# Altium schematic symbol library Resistors.SchLib: 29 symbols
Pins are listed as number, name and electrical type; pins without a type are passive.

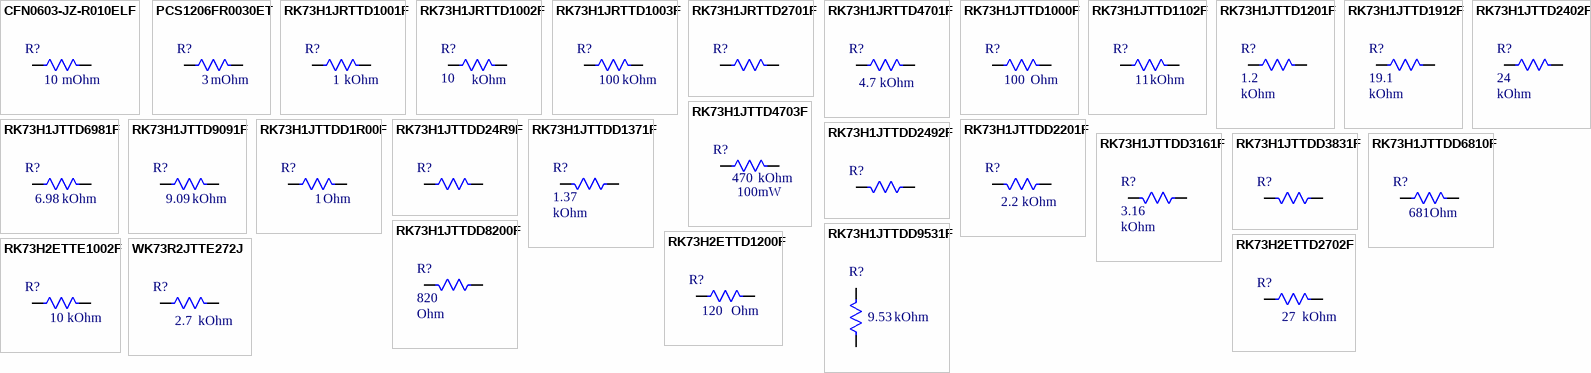
[diagram p0: symbols CFN0603-JZ-R010ELF to WK73R2JTTE272J]

## CFN0603-JZ-R010ELF
designator R?  value 10  Units: mOhm  (hidden comment: *)
Resistor Metal Foil 0603 0.01Ohm ±5% 1/5W ±50ppm/°C T/R; Manufacturer: Bourns; Manufacturer Part Number: CFN0603-JZ-R010ELF; Supplier 1: Mouser; RoHS: No; Stock 1: 4860; Pricing 1: 1=0.39000, 10=0.30400, 50=0.30400, 100=0.12800, 1000=0.07100, 10000=0.05800 (USD)
footprint Chip2PinSM127P600-8N-0603-BOURNS (CFN0603-JZ-R010ELF)
pins: 1, 2

## PCS1206FR0030ET
designator R?  value 3  Units: mOhm  (hidden comment: *)
.003 Ohm 1% 1W 50PPM; Manufacturer: Ohmite; Manufacturer Part Number: PCS1206FR0030ET; Supplier 1: Digi-Key; RoHS: Yes; Category: Chip SMD Resistors; Stock 1: 13466; Pricing 1: 1=0.58000, 10=0.42500, 25=0.34480, 50=0.30000, 100=0.24750, 250=0.21500, 500=0.17500, 1000=0.13880 (USD)
footprint Chip2PinSM127P600-8N-1206-OHMITE
pins: 1, 2

## RK73H1JRTTD1001F
designator R?  value 1  Units: kOhm  (hidden comment: *)
Res Thick Film 0603 1K Ohm 1% 0.125W(1/8W) ±100ppm/C Sulfur Resistant Pad SMD Automotive T/R; Manufacturer: KOA Speer; Manufacturer Part Number: RK73H1JRTTD1001F; Resistance: 1kR; Power Rating: 100mW; Voltage Rating: 75V; Temperature Coefficient: 100ppm/°C; Voltage Rating (DC): 50V; Supplier 1: Newark; RoHS: Yes; Category: Chip SMD Resistors; Stock 1: 13440; Pricing 1: 1=0.12000, 10=0.10500, 25=0.08400, 50=0.06300, 100=0.04200 (USD); Case/Package: 0603; Case Code (Imperial): 0603; Case Code (Metric): 1608; Weight: 7.1E-05oz; Min Operating Temperature: -55°C; Max Operating Temperature: 155°C; Tolerance: 1%; Packaging: Tape and Reel; Package Quantity: 5000; Termination: SMD/SMT; Length: 1.6mm; Width: 0.8mm; Height: 0.45mm; RoHS Compliant: Yes; ComponentLink1URL: https://datasheet.ciiva.com/24161/rk73-rt-268247-24161977.pdf?src-supplier=Mouser; ComponentLink1Description: https://datasheet.ciiva.com/24161/rk73-rt-268247-24161977.pdf?src-supplier=Mouser
footprint RESC1608X06N-RK73H0603 (Chip Resistor, 2-Leads, Body 1.60x0.80mm, IPC Medium Density)
pins: 1, 2

## RK73H1JRTTD1002F
designator R?  value 10  Units: kOhm  (hidden comment: *)
Res Thick Film 0603 10K Ohm 1% 0.1W(1/10W) ±100ppm/°C Sulfur Resistant Pad SMD Automotive T/R; Manufacturer: KOA Speer; Manufacturer Part Number: RK73H1JRTTD1002F; Power Rating: 100mW; Voltage Rating: 75V; Voltage Rating (DC): 50V; Resistance: 10kR; Supplier 1: Digi-Key; RoHS: Yes; Category: Chip SMD Resistors; Stock 1: 166573; Pricing 1: 1=0.12000, 10=0.10900, 100=0.04200, 1000=0.01847, 2500=0.01595 (USD); Case/Package: 0603; Case Code (Imperial): 0603; Case Code (Metric): 1608; Weight: 7.1E-05oz; Min Operating Temperature: -55°C; Max Operating Temperature: 155°C; Tolerance: 1%; Packaging: Tape and Reel; Package Quantity: 5000; Termination: SMD/SMT; Temperature Coefficient: 100ppm/°C; Length: 1.6mm; Width: 0.8mm; Height: 0.45mm; RoHS Compliant: Yes; ComponentLink1URL: http://www.mouser.com/ds/2/219/RK73H-5715.pdf?src-supplier=Mouser; ComponentLink1Description: http://www.mouser.com/ds/2/219/RK73H-5715.pdf?src-supplier=Mouser; Type: Resistor
footprint RESC1608X06N-RK73H0603 (Chip Resistor, 2-Leads, Body 1.60x0.80mm, IPC Medium Density)
pins: 1, 2

## RK73H1JRTTD1003F
designator R?  value 100  Units: kOhm  (hidden comment: *)
Res Thick Film 0603 100K Ohm 1% 0.1W(1/10W) ±100ppm/C Sulfur Resistant Pad SMD Automotive T/R; Manufacturer: KOA Speer; Manufacturer Part Number: RK73H1JRTTD1003F; Resistance: 100kR; Power Rating: 100mW; Voltage Rating: 75V; Temperature Coefficient: 100ppm/°C; Voltage Rating (DC): 50V; Supplier 1: Digi-Key; RoHS: Yes; Category: Chip SMD Resistors; Stock 1: 80038; Pricing 1: 1=0.12000, 10=0.10900, 100=0.04200, 1000=0.01847, 2500=0.01595 (USD); Case/Package: 0603; Case Code (Imperial): 0603; Case Code (Metric): 1608; Weight: 7.1E-05oz; Min Operating Temperature: -55°C; Max Operating Temperature: 155°C; Tolerance: 1%; Packaging: Tape and Reel; Package Quantity: 5000; Termination: SMD/SMT; Length: 1.6mm; Width: 0.8mm; Height: 0.45mm; RoHS Compliant: Yes; ComponentLink1URL: http://www.mouser.com/ds/2/219/RK73H-5715.pdf?src-supplier=Mouser; ComponentLink1Description: http://www.mouser.com/ds/2/219/RK73H-5715.pdf?src-supplier=Mouser
footprint RESC1608X06N-RK73H0603 (Chip Resistor, 2-Leads, Body 1.60x0.80mm, IPC Medium Density)
pins: 1, 2

## RK73H1JRTTD2701F
designator R?  (value not drawn)
Res, 2K7, 1%, 0.1W, 0603 Rohs Compliant: Yes; Manufacturer: KOA Speer; Manufacturer Part Number: RK73H1JRTTD2701F; Resistance: 2.7kR; Power Rating: 100mW; Voltage Rating: 75V; Temperature Coefficient: 100ppm/°C; Voltage Rating (DC): 50V; Value: 2.7; Units: kOhm; Supplier 1: Digi-Key; RoHS: Yes; Category: Chip SMD Resistors; Stock 1: 18655; Pricing 1: 1=0.12000, 10=0.10900, 100=0.04200, 1000=0.01847, 2500=0.01595 (USD); Case/Package: 0603; Case Code (Imperial): 0603; Case Code (Metric): 1608; Weight: 7.1E-05oz; Min Operating Temperature: -55°C; Max Operating Temperature: 155°C; Tolerance: 1%; Packaging: Tape and Reel; Package Quantity: 5000; Resistor Type: Thick Film; Termination: SMD/SMT; Length: 1.6mm; Width: 0.8mm; Height: 0.45mm; RoHS Compliant: Yes; ComponentLink1URL: http://www.mouser.com/ds/2/219/RK73H-5715.pdf?src-supplier=Mouser; ComponentLink1Description: http://www.mouser.com/ds/2/219/RK73H-5715.pdf?src-supplier=Mouser
footprint RESC1608X06N-RK73H0603 (Chip Resistor, 2-Leads, Body 1.60x0.80mm, IPC Medium Density)
pins: 1, 2

## RK73H1JRTTD4701F
designator R?  value 4.7  Units: kOhm  (hidden comment: *)
Res Thick Film 0603 4.7K Ohm 1% 0.1W(1/10W) ±100ppm/C Sulfur Resistant Pad SMD Automotive T/R; Manufacturer: KOA Speer; Manufacturer Part Number: RK73H1JRTTD4701F; Resistance: 4.7kR; Power Rating: 100mW; Voltage Rating: 75V; Temperature Coefficient: 100ppm/°C; Voltage Rating (DC): 50V; Supplier 1: Digi-Key; RoHS: Yes; Category: Chip SMD Resistors; Stock 1: 87131; Pricing 1: 1=0,12000, 10=0,10900, 100=0,04200, 1000=0,01847, 2500=0,01595 (USD); Case/Package: 0603; Case Code (Imperial): 0603; Case Code (Metric): 1608; Weight: 7.1E-05oz; Min Operating Temperature: -55°C; Max Operating Temperature: 155°C; Tolerance: 1%; Packaging: Tape and Reel; Package Quantity: 5000; Termination: SMD/SMT; Length: 1.6mm; Width: 0.8mm; Height: 0.45mm; RoHS Compliant: Yes; ComponentLink1URL: http://www.mouser.com/ds/2/219/RK73H-5715.pdf?src-supplier=Mouser; ComponentLink1Description: http://www.mouser.com/ds/2/219/RK73H-5715.pdf?src-supplier=Mouser
footprint RESC1608X06N-RK73H0603 (Chip Resistor, 2-Leads, Body 1.60x0.80mm, IPC Medium Density)
pins: 1, 2

## RK73H1JTTD1000F
designator R?  value 100  Units: Ohm  (hidden comment: *)
Res Thick Film 0603 100 Ohm 1% 0.125W(1/8W) ±100ppm/C Pad SMD Automotive T/R; Manufacturer: KOA Speer; Manufacturer Part Number: RK73H1JTTD1000F; Resistance: 100R; Power Rating: 100mW; Voltage Rating: 50V; Temperature Coefficient: 100ppm/°C; Supplier 1: RSComponents; RoHS: Yes; Category: Chip SMD Resistors; Stock 1: 1; Pricing 1: 50=0.04600, 500=0.04200, 1000=0.03800, 2000=0.03400, 4000=0.02900 (USD); Case/Package: 0603; Number of Pins: 2; Case Code (Imperial): 0603; Case Code (Metric): 1608; Min Operating Temperature: -55°C; Max Operating Temperature: 155°C; Tolerance: 1%; Packaging: Tape and Reel; Package Quantity: 5000; Resistor Type: Thick Film; Termination: SMD/SMT; Voltage Rating (DC): 50V; Length: 1.6mm; Width: 0.8mm; Height: 0.45mm; Depth: 0.8mm; Military Standard: Not; REACH SVHC: Unknown; Lead Free: Lead Free; ComponentLink1URL: https://datasheet.ciiva.com/48426/rk73h-series-eng-jap-tds-48426518.pdf?src-supplier=Distrelec; ComponentLink1Description: https://datasheet.ciiva.com/48426/rk73h-series-eng-jap-tds-48426518.pdf?src-supplier=Distrelec; ComponentLink2URL: https://datasheet.ciiva.com/7773/549017-7773367.pdf?src-supplier=Element14; ComponentLink2Description: https://datasheet.ciiva.com/7773/549017-7773367.pdf?src-supplier=Element14; ComponentLink3URL: https://datasheet.ciiva.com/5556/rk73h-5556218.pdf?src-supplier=Mouser; ComponentLink3Description: https://datasheet.ciiva.com/5556/rk73h-5556218.pdf?src-supplier=Mouser; Type: Resistor; Package: 0603
footprint RESC1608X06N-RK73H0603 (Chip Resistor, 2-Leads, Body 1.60x0.80mm, IPC Medium Density)
pins: 1, 2

## RK73H1JTTD1102F
designator R?  value 11  Units: kOhm  (hidden comment: *)
Res Thick Film 0603 11K Ohm 1% 0.1W(1/10W) +/-100ppm/C Pad SMD Automotive T/R; Manufacturer: KOA Speer; Manufacturer Part Number: RK73H1JTTD1102F; Voltage Rating: 50V; Resistance: 11kR; Power Rating: 100mW; Temperature Coefficient: 100ppm/°C; Supplier 1: RSComponents; RoHS: Yes; Category: Chip SMD Resistors; Stock 1: 1; Pricing 1: 50=0.04600, 500=0.04200, 1000=0.03800, 2000=0.03400, 4000=0.02900 (USD); Mount: Surface Mount; Case/Package: 0603; Number of Pins: 2; Case Code (Imperial): 0603; Case Code (Metric): 1608; Min Operating Temperature: -55°C; Max Operating Temperature: 155°C; Packaging: Tape and Reel; Tolerance: 1%; Package Quantity: 5000; Termination: SMD/SMT; Resistor Type: Thick Film; Voltage Rating (DC): 50V; Series: RK73H; Construction: Rectangular; Technology: THICK FILM; Resistance Tolerance: 1%; Length: 1.6mm; Width: 0.8mm; Height: 0.45mm; Depth: 0.8mm; Military Standard: Not; Lead Free: Lead Free; RoHS Compliant: Yes; ComponentLink1URL: https://datasheet.ciiva.com/5557/rk73h-5557852.pdf?src-supplier=Mouser; ComponentLink1Description: https://datasheet.ciiva.com/5557/rk73h-5557852.pdf?src-supplier=Mouser; ComponentLink2URL: https://datasheet.ciiva.com/48426/rk73h-series-eng-jap-tds-48426526.pdf?src-supplier=Distrelec; ComponentLink2Description: https://datasheet.ciiva.com/48426/rk73h-series-eng-jap-tds-48426526.pdf?src-supplier=Distrelec
footprint RESC1608X06N-RK73H0603 (Chip Resistor, 2-Leads, Body 1.60x0.80mm, IPC Medium Density)
pins: 1, 2

## RK73H1JTTD1201F
designator R?  value 1.2  Units: kOhm  (hidden comment: *)
Resistores de pel&iacute;cula gruesa - SMD 1/10watt 1.2Kohms 1%; Manufacturer: KOA Speer; Manufacturer Part Number: RK73H1JTTD1201F; Resistance: 1.2kR; Power Rating: 100mW; Voltage Rating: 50V; Temperature Coefficient: 100ppm/°C; Supplier 1: Digi-Key; RoHS: Yes; Category: Chip SMD Resistors; Stock 1: 682; Pricing 1: 1=0.10000, 10=0.02800, 100=0.01140, 1000=0.00512, 2500=0.00444 (USD); Case/Package: 0603; Number of Pins: 2; Case Code (Imperial): 0603; Case Code (Metric): 1608; Min Operating Temperature: -55°C; Max Operating Temperature: 155°C; Tolerance: 1%; Packaging: Tape and Reel; Package Quantity: 5000; Resistor Type: Thick Film; Termination: SMD/SMT; Series: RK73H; Construction: Rectangular; Resistance Tolerance: 1%; Length: 1.6mm; Width: 0.8mm; Height: 0.45mm; Depth: 0.8mm; Military Standard: Not; Lead Free: Lead Free; RoHS Compliant: Yes; ComponentLink1URL: https://datasheet.ciiva.com/7763/549017-7763131.pdf?src-supplier=Element14; ComponentLink1Description: https://datasheet.ciiva.com/7763/549017-7763131.pdf?src-supplier=Element14
footprint RESC1608X06N-RK73H0603 (Chip Resistor, 2-Leads, Body 1.60x0.80mm, IPC Medium Density)
pins: 1, 2

## RK73H1JTTD1912F
designator R?  value 19.1  Units: kOhm  (hidden comment: *)
Res Thick Film 0603 19.1K Ohm 1% 0.1W(1/10W) ±100ppm/C Pad SMD Automotive T/R; Manufacturer: KOA Speer; Manufacturer Part Number: RK73H1JTTD1912F; Voltage Rating: 50V; Resistance: 19.1kR; Power Rating: 100mW; Temperature Coefficient: 100ppm/°C; Supplier 1: Arrow Electronics; RoHS: Yes; Category: Chip SMD Resistors; Stock 1: 849; Pricing 1: 1=0.03990, 10=0.02330, 25=0.02100, 100=0.01090, 250=0.00890, 500=0.00610 (USD); Case/Package: 0603; Case Code (Imperial): 0603; Case Code (Metric): 1608; Min Operating Temperature: -55°C; Max Operating Temperature: 155°C; Packaging: Tape and Reel; Package Quantity: 5000; Tolerance: 1%; Resistor Type: Thick Film; Termination: SMD/SMT; Voltage Rating (DC): 50V; Series: RK73H; Construction: Rectangular; Length: 1.6mm; Width: 0.8mm; Height: 0.45mm; Depth: 0.8mm; Military Standard: Not; Lead Free: Lead Free; RoHS Compliant: Yes; ComponentLink1URL: http://components.arrow.com/part/dataview/39723289S6807915N5146?src-supplier=Arrow+Electronics; ComponentLink1Description: http://components.arrow.com/part/dataview/39723289S6807915N5146?src-supplier=Arrow+Electronics; ComponentLink2URL: http://www.mouser.com/ds/2/219/RK73H-5715.pdf?src-supplier=Mouser; ComponentLink2Description: http://www.mouser.com/ds/2/219/RK73H-5715.pdf?src-supplier=Mouser
footprint RESC1608X06N-RK73H0603 (Chip Resistor, 2-Leads, Body 1.60x0.80mm, IPC Medium Density)
pins: 1, 2

## RK73H1JTTD2402F
designator R?  value 24  Units: kOhm  (hidden comment: *)
Res Thick Film 0603 24K Ohm 1% 0.1W(1/10W) +/-100ppm/C Pad SMD Automotive T/R; Manufacturer: KOA Speer; Manufacturer Part Number: RK73H1JTTD2402F; Resistance: 24kR; Power Rating: 100mW; Voltage Rating: 50V; Temperature Coefficient: 100ppm/°C; Supplier 1: Mouser; RoHS: Yes; Category: Chip SMD Resistors; Stock 1: 283481; Pricing 1: 1=0.10000, 10=0.02700, 50=0.02700, 100=0.01100, 1000=0.00500, 5000=0.00300, 10000=0.00300 (USD); Case/Package: 0603; Number of Pins: 2; Case Code (Imperial): 0603; Case Code (Metric): 1608; Min Operating Temperature: -55°C; Max Operating Temperature: 155°C; Tolerance: 1%; Packaging: Tape and Reel; Package Quantity: 5000; Resistor Type: Thick Film; Termination: SMD/SMT; Voltage Rating (DC): 50V; Series: RK73H; Resistance Tolerance: 1%; Length: 1.6mm; Width: 0.8mm; Height: 0.45mm; REACH SVHC: Unknown; Lead Free: Lead Free; RoHS Compliant: Yes; ComponentLink1URL: https://datasheet.ciiva.com/5554/rk73h-5554892.pdf?src-supplier=Mouser; ComponentLink1Description: https://datasheet.ciiva.com/5554/rk73h-5554892.pdf?src-supplier=Mouser; ComponentLink2URL: https://datasheet.ciiva.com/7706/549017-7706092.pdf?src-supplier=Element14; ComponentLink2Description: https://datasheet.ciiva.com/7706/549017-7706092.pdf?src-supplier=Element14; ComponentLink3URL: https://datasheet.ciiva.com/48426/rk73h-series-eng-jap-tds-48426572.pdf?src-supplier=Distrelec; ComponentLink3Description: https://datasheet.ciiva.com/48426/rk73h-series-eng-jap-tds-48426572.pdf?src-supplier=Distrelec
footprint RESC1608X06N-RK73H0603 (Chip Resistor, 2-Leads, Body 1.60x0.80mm, IPC Medium Density)
pins: 1, 2

## RK73H1JTTD4703F
designator R?  value 470  Power Rating: 100mW  Unit: kOhm  (hidden comment: *)
Res Thick Film 0603 470K Ohm 1% 0.1W(1/10W) ±100ppm/C Pad SMD Automotive T/R; Manufacturer: KOA Speer; Manufacturer Part Number: RK73H1JTTD4703F; Voltage Rating: 50V; Temperature Coefficient: 100ppm/°C; Supplier 1: Digi-Key; RoHS: Yes; Category: Chip SMD Resistors; Stock 1: 2928; Pricing 1: 1=0.10000, 10=0.02800, 100=0.01140, 1000=0.00512, 2500=0.00444 (USD); Case/Package: 0603; Case Code (Imperial): 0603; Case Code (Metric): 1608; Min Operating Temperature: -55°C; Max Operating Temperature: 155°C; Tolerance: 1%; Packaging: Tape and Reel; Package Quantity: 5000; Resistor Type: Thick Film; Termination: SMD/SMT; Voltage Rating (DC): 50V; Series: RK73H; Construction: Rectangular; Resistance Tolerance: 1%; Length: 1.6mm; Width: 0.8mm; Height: 0.45mm; Depth: 0.8mm; REACH SVHC: Unknown; Military Standard: Not; Lead Free: Lead Free; RoHS Compliant: Yes; ComponentLink1URL: https://datasheet.ciiva.com/7773/549017-7773386.pdf?src-supplier=Element14; ComponentLink1Description: https://datasheet.ciiva.com/7773/549017-7773386.pdf?src-supplier=Element14; ComponentLink2URL: https://datasheet.ciiva.com/5556/rk73h-5556364.pdf?src-supplier=Mouser; ComponentLink2Description: https://datasheet.ciiva.com/5556/rk73h-5556364.pdf?src-supplier=Mouser; Type: Resistor
footprint RESC1608X06N-RK73H0603 (Chip Resistor, 2-Leads, Body 1.60x0.80mm, IPC Medium Density)
pins: 1, 2

## RK73H1JTTD6981F
designator R?  value 6.98  Units: kOhm  (hidden comment: *)
Res Thick Film 0603 6.98K Ohm 1% 0.1W(1/10W) ±100ppm/C Pad SMD Automotive T/R; Manufacturer: KOA Speer; Manufacturer Part Number: RK73H1JTTD6981F; Power Rating: 100mW; Voltage Rating: 50V; Resistance: 6.98kR; Temperature Coefficient: 100ppm/°C; Supplier 1: Digi-Key; RoHS: Yes; Category: Chip SMD Resistors; Stock 1: 30001; Pricing 1: 1=0.10000, 10=0.02800, 100=0.01140, 1000=0.00512, 2500=0.00444 (USD); Case/Package: 0603; Case Code (Imperial): 0603; Case Code (Metric): 1608; Min Operating Temperature: -55°C; Max Operating Temperature: 155°C; Tolerance: 1%; Packaging: Tape and Reel; Package Quantity: 5000; Resistor Type: Thick Film; Termination: SMD/SMT; Voltage Rating (DC): 50V; Series: RK73H; Construction: Rectangular; Length: 1.6mm; Width: 0.8mm; Height: 0.45mm; Depth: 0.8mm; Military Standard: Not; Lead Free: Lead Free; RoHS Compliant: Yes; ComponentLink1URL: https://datasheet.ciiva.com/5556/rk73h-5556985.pdf?src-supplier=Mouser; ComponentLink1Description: https://datasheet.ciiva.com/5556/rk73h-5556985.pdf?src-supplier=Mouser
footprint RESC1608X06N-RK73H0603 (Chip Resistor, 2-Leads, Body 1.60x0.80mm, IPC Medium Density)
pins: 1, 2

## RK73H1JTTD9091F
designator R?  value 9.09  Units: kOhm  (hidden comment: *)
Res Thick Film 0603 9.09K Ohm 1% 0.1W(1/10W) ±100ppm/C Pad SMD Automotive T/R; Manufacturer: KOA Speer; Manufacturer Part Number: RK73H1JTTD9091F; Resistance: 9.09kR; Power Rating: 100mW; Voltage Rating: 50V; Temperature Coefficient: 100ppm/°C; Supplier 1: Digi-Key; RoHS: Yes; Category: Chip SMD Resistors; Stock 1: 3007; Pricing 1: 1=0.10000, 10=0.02800, 100=0.01140, 1000=0.00512, 2500=0.00444 (USD); Mount: Surface Mount; Case/Package: 0603; Case Code (Imperial): 0603; Case Code (Metric): 1608; Min Operating Temperature: -55°C; Max Operating Temperature: 155°C; Tolerance: 1%; Packaging: Tape and Reel; Package Quantity: 5000; Resistor Type: Thick Film; Termination: SMD/SMT; Voltage Rating (DC): 50V; Series: RK73H; Technology: THICK FILM; Construction: Rectangular; Length: 1.6mm; Width: 0.8mm; Height: 0.45mm; Depth: 0.8mm; Military Standard: Not; Lead Free: Lead Free; RoHS Compliant: Yes; ComponentLink1URL: https://datasheet.ciiva.com/5556/rk73h-5556741.pdf?src-supplier=Mouser; ComponentLink1Description: https://datasheet.ciiva.com/5556/rk73h-5556741.pdf?src-supplier=Mouser
footprint RESC1608X06N-RK73H0603 (Chip Resistor, 2-Leads, Body 1.60x0.80mm, IPC Medium Density)
pins: 1, 2

## RK73H1JTTDD1R00F
designator R?  value 1  Units: Ohm  (hidden comment: *)
Thick Film Resistors 1/10watts 1ohms 1%; Manufacturer: KOA Speer; Manufacturer Part Number: RK73H1JTTDD1R00F; Resistance: 1R; Power Rating: 100mW; Voltage Rating: 50V; Temperature Coefficient: 200ppm/°C; Supplier 1: Mouser; RoHS: Yes; Category: Uncategorized; Stock 1: 893; Pricing 1: 1=0.10000, 10=0.03000, 50=0.03000, 100=0.01300, 1000=0.00600, 10000=0.00300 (USD); Case Code (Imperial): 0603; Case Code (Metric): 1608; Min Operating Temperature: -55°C; Max Operating Temperature: 155°C; Tolerance: 1%; Packaging: Tape and Reel; Resistor Type: Thick Film; Termination: SMD/SMT; Series: RK73H; RoHS Compliant: Yes; ComponentLink1URL: https://datasheet.ciiva.com/5556/rk73h-5556271.pdf?src-supplier=Mouser; ComponentLink1Description: https://datasheet.ciiva.com/5556/rk73h-5556271.pdf?src-supplier=Mouser; Type: Resistor; Package: 0603
footprint RESC1608X06N-RK73H0603 (Chip Resistor, 2-Leads, Body 1.60x0.80mm, IPC Medium Density)
pins: 1, 2

## RK73H1JTTDD24R9F
designator R?  (value not drawn)
Thick Film Resistors - SMD 24.9 OHM 1%; Manufacturer: KOA Speer; Manufacturer Part Number: RK73H1JTTDD24R9F; Power Rating: 100mW; Resistance: 24.9R; Voltage Rating: 50V; Temperature Coefficient: 100ppm/°C; Value: 24.9; Supplier 1: Mouser; RoHS: Yes; Category: Chip SMD Resistors; Stock 1: 2050; Pricing 1: 1=0.10000, 10=0.02700, 50=0.02700, 100=0.01100, 1000=0.00500, 10000=0.00300 (USD); Case/Package: 0603; Case Code (Imperial): 0603; Case Code (Metric): 1608; Min Operating Temperature: -55°C; Max Operating Temperature: 155°C; Packaging: Tape and Reel; Package Quantity: 10000; Tolerance: 1%; Resistor Type: Thick Film; Termination: SMD/SMT; Series: RK73H; Length: 1.6mm; Width: 0.8mm; Height: 0.45mm; RoHS Compliant: Yes; ComponentLink1URL: http://www.koaspeer.com/catimages/Products/RK73H/RK73H.pdf?src-supplier=Mouser; ComponentLink1Description: http://www.koaspeer.com/catimages/Products/RK73H/RK73H.pdf?src-supplier=Mouser; Units: Ohm
footprint RESC1608X06N-RK73H0603 (Chip Resistor, 2-Leads, Body 1.60x0.80mm, IPC Medium Density)
pins: 1, 2

## RK73H1JTTDD1371F
designator R?  value 1.37  Units: kOhm  (hidden comment: *)
Res Thick Film 0603 1.37K Ohm 1% 0.1W(1/10W) ?100ppm/C Molded SMD Automotive Paper T/R; Manufacturer: KOA Speer; Manufacturer Part Number: RK73H1JTTDD1371F; Power Rating: 100mW; Resistance: 1.37kR; Voltage Rating: 50V; Temperature Coefficient: 100ppm/°C; Supplier 1: Mouser; RoHS: Yes; Category: Chip SMD Resistors; Stock 1: 29613; Pricing 1: 1=0.10000, 10=0.02700, 50=0.02700, 100=0.01100, 1000=0.00500, 10000=0.00300 (USD); Case/Package: 0603; Case Code (Imperial): 0603; Case Code (Metric): 1608; Weight: 7.1E-05oz; Min Operating Temperature: -55°C; Max Operating Temperature: 155°C; Tolerance: 1%; Packaging: Tape and Reel; Resistor Type: Thick Film; Termination: SMD/SMT; Series: RK73H; Length: 1.6mm; Width: 0.8mm; Height: 0.45mm; Lead Free: Lead Free; RoHS Compliant: Yes; ComponentLink1URL: https://datasheet.ciiva.com/5595/rk73h-5595786.pdf?src-supplier=Mouser; ComponentLink1Description: https://datasheet.ciiva.com/5595/rk73h-5595786.pdf?src-supplier=Mouser
footprint RESC1608X06N-RK73H0603 (Chip Resistor, 2-Leads, Body 1.60x0.80mm, IPC Medium Density)
pins: 1, 2

## RK73H1JTTDD2201F
designator R?  value 2.2  Units: kOhm  (hidden comment: *)
Thick Film Resistors 1/10watt 2.2Kohms 1%; Manufacturer: KOA Speer; Manufacturer Part Number: RK73H1JTTDD2201F; Resistance: 2.2kR; Power Rating: 100mW; Voltage Rating: 50V; Temperature Coefficient: 100ppm/°C; Supplier 1: Mouser; RoHS: Yes; Category: Resistors; Stock 1: 548; Pricing 1: 1=0.10000, 10=0.02700, 50=0.02700, 100=0.01100, 1000=0.00500, 10000=0.00400 (USD); Case/Package: 0603; Case Code (Imperial): 0603; Case Code (Metric): 1608; Min Operating Temperature: -55°C; Max Operating Temperature: 155°C; Tolerance: 1%; Packaging: Tape and Reel; Termination: SMD/SMT; Series: RK73H; Lead Free: Lead Free; RoHS Compliant: Yes; ComponentLink1URL: http://www.mouser.com/ds/2/219/RK73H-5715.pdf?src-supplier=Mouser; ComponentLink1Description: http://www.mouser.com/ds/2/219/RK73H-5715.pdf?src-supplier=Mouser
footprint RESC1608X06N-RK73H0603 (Chip Resistor, 2-Leads, Body 1.60x0.80mm, IPC Medium Density)
pins: 1, 2

## RK73H1JTTDD2492F
designator R?  (value not drawn)
Thick Film Resistors 1/10watts 24.9Kohms; Manufacturer: KOA Speer; Manufacturer Part Number: RK73H1JTTDD2492F; Resistance: 24.9kR; Tolerance: 1%; Power Rating: 100mW; Voltage Rating: 50V; Temperature Coefficient: 100ppm/°C; Value: 24.9; Units: kOhm; Supplier 1: Arrow Electronics; RoHS: Yes; Category: Chip SMD Resistors; Stock 1: 9000; Pricing 1: 1=0.04990, 10=0.01120, 25=0.01110, 100=0.00470, 500=0.00280, 1000=0.00230, 3000=0.00220, 6000=0.00180 (USD); Case/Package: 0603; Case Code (Imperial): 0603; Case Code (Metric): 1608; Min Operating Temperature: -55°C; Max Operating Temperature: 155°C; Packaging: Tape and Reel; Resistor Type: Thick Film; Termination: SMD/SMT; Series: RK73H; Construction: Rectangular; Length: 1.6mm; Depth: 0.8mm; Military Standard: Not; Lead Free: Lead Free; RoHS Compliant: Yes; ComponentLink1URL: https://datasheet.ciiva.com/5553/rk73h-5553228.pdf?src-supplier=Mouser; ComponentLink1Description: https://datasheet.ciiva.com/5553/rk73h-5553228.pdf?src-supplier=Mouser
footprint RESC1608X06N-RK73H0603 (Chip Resistor, 2-Leads, Body 1.60x0.80mm, IPC Medium Density)
pins: 1, 2

## RK73H1JTTDD3161F
designator R?  value 3.16  Units: kOhm  (hidden comment: *)
Thick Film Resistors 3.16K OHM 1%; Manufacturer: KOA Speer; Manufacturer Part Number: RK73H1JTTDD3161F; Voltage Rating: 50V; Power Rating: 100mW; Resistance: 3.16kR; Temperature Coefficient: 100ppm/°C; Supplier 1: Mouser; RoHS: Yes; Category: Chip SMD Resistors; Stock 1: 28866; Pricing 1: 1=0.10000, 10=0.02700, 50=0.02700, 100=0.01100, 1000=0.00500, 10000=0.00300 (USD); Case/Package: 0603; Case Code (Imperial): 0603; Case Code (Metric): 1608; Min Operating Temperature: -55°C; Max Operating Temperature: 155°C; Packaging: Tape and Reel; Tolerance: 1%; Termination: SMD/SMT; Resistor Type: Thick Film; Series: RK73H; Lead Free: Lead Free; RoHS Compliant: Yes; ComponentLink1URL: http://www.mouser.com/ds/2/219/RK73H-5715.pdf?src-supplier=Mouser; ComponentLink1Description: http://www.mouser.com/ds/2/219/RK73H-5715.pdf?src-supplier=Mouser
footprint RESC1608X06N-RK73H0603 (Chip Resistor, 2-Leads, Body 1.60x0.80mm, IPC Medium Density)
pins: 1, 2

## RK73H1JTTDD3831F
designator R?  (value not drawn)
Thick Film Resistors 3.83K OHM 1%; Manufacturer: KOA Speer; Manufacturer Part Number: RK73H1JTTDD3831F; Voltage Rating: 50V; Resistance: 3.83kR; Power Rating: 100mW; Temperature Coefficient: 100ppm/°C; Value: 3.83; Units: kOhm; Supplier 1: Mouser; RoHS: Yes; Category: Chip SMD Resistors; Stock 1: 2257; Pricing 1: 1=0.10000, 10=0.02700, 50=0.02700, 100=0.01100, 1000=0.00500, 10000=0.00300 (USD); Case/Package: 0603; Case Code (Imperial): 0603; Case Code (Metric): 1608; Weight: 7.1E-05oz; Min Operating Temperature: -55°C; Max Operating Temperature: 155°C; Tolerance: 1%; Packaging: Tape and Reel; Resistor Type: Thick Film; Termination: SMD/SMT; Series: RK73H; Length: 1.6mm; Width: 0.8mm; Height: 0.45mm; Lead Free: Lead Free; RoHS Compliant: Yes; ComponentLink1URL: http://www.mouser.com/ds/2/219/RK73H-5715.pdf?src-supplier=Mouser; ComponentLink1Description: http://www.mouser.com/ds/2/219/RK73H-5715.pdf?src-supplier=Mouser
footprint RESC1608X06N-RK73H0603 (Chip Resistor, 2-Leads, Body 1.60x0.80mm, IPC Medium Density)
pins: 1, 2

## RK73H1JTTDD6810F
designator R?  value 681  Units: Ohm  (hidden comment: *)
Thick Film Resistors 1/10watts 681ohms 1%; Manufacturer: KOA Speer; Manufacturer Part Number: RK73H1JTTDD6810F; Resistance: 681R; Power Rating: 100mW; Voltage Rating: 50V; Temperature Coefficient: 100ppm/°C; Supplier 1: Mouser; RoHS: Yes; Category: Resistors; Stock 1: 54300; Pricing 1: 1=0.10000, 10=0.02700, 50=0.02700, 100=0.01100, 1000=0.00500, 10000=0.00300 (USD); Case/Package: 0603; Case Code (Imperial): 0603; Case Code (Metric): 1608; Min Operating Temperature: -55°C; Max Operating Temperature: 155°C; Tolerance: 1%; Packaging: Tape and Reel; Resistor Type: Thick Film; Termination: SMD/SMT; Series: RK73H; Construction: Rectangular; Length: 1.6mm; Depth: 0.8mm; Military Standard: Not; Lead Free: Lead Free; RoHS Compliant: Yes; ComponentLink1URL: http://www.mouser.com/ds/2/219/RK73H-5715.pdf?src-supplier=Mouser; ComponentLink1Description: http://www.mouser.com/ds/2/219/RK73H-5715.pdf?src-supplier=Mouser
footprint RESC1608X06N-RK73H0603 (Chip Resistor, 2-Leads, Body 1.60x0.80mm, IPC Medium Density)
pins: 1, 2

## RK73H1JTTDD8200F
designator R?  value 820  Units: Ohm  (hidden comment: *)
Thick Film Resistors 820 OHM 1%; Manufacturer: KOA Speer; Manufacturer Part Number: RK73H1JTTDD8200F; Resistance: 820R; Power Rating: 100mW; Voltage Rating: 50V; Temperature Coefficient: 100ppm/°C; Supplier 1: Mouser; RoHS: Yes; Category: Resistors; Stock 1: 30000; Pricing 1: 1=0.10000, 10=0.02700, 50=0.02700, 100=0.01100, 1000=0.00500, 10000=0.00300 (USD); Case/Package: 0603; Case Code (Imperial): 0603; Case Code (Metric): 1608; Min Operating Temperature: -55°C; Max Operating Temperature: 155°C; Tolerance: 1%; Packaging: Tape and Reel; Termination: SMD/SMT; Series: RK73H; Lead Free: Lead Free; RoHS Compliant: Yes; ComponentLink1URL: http://www.mouser.com/ds/2/219/RK73H-5715.pdf?src-supplier=Mouser; ComponentLink1Description: http://www.mouser.com/ds/2/219/RK73H-5715.pdf?src-supplier=Mouser
footprint RESC1608X06N-RK73H0603 (Chip Resistor, 2-Leads, Body 1.60x0.80mm, IPC Medium Density)
pins: 1, 2

## RK73H1JTTDD9531F
designator R?  value 9.53  Units: kOhm  (hidden comment: *)
Thick Film Resistors 1/10W 9.53K OHM 1%; Manufacturer: KOA Speer; Manufacturer Part Number: RK73H1JTTDD9531F; Resistance: 9.53kR; Power Rating: 100mW; Voltage Rating: 50V; Temperature Coefficient: 100ppm/°C; Supplier 1: Mouser; RoHS: Yes; Category: Chip SMD Resistors; Stock 1: 10188; Pricing 1: 1=0.10000, 10=0.02700, 50=0.02700, 100=0.01100, 1000=0.00500, 10000=0.00300 (USD); Case/Package: 0603; Case Code (Imperial): 0603; Case Code (Metric): 1608; Min Operating Temperature: -55°C; Max Operating Temperature: 155°C; Tolerance: 1%; Packaging: Tape and Reel; Resistor Type: Thick Film; Termination: SMD/SMT; Series: RK73H; Lead Free: Lead Free; RoHS Compliant: Yes; ComponentLink1URL: https://datasheet.ciiva.com/5557/rk73h-5557229.pdf?src-supplier=Mouser; ComponentLink1Description: https://datasheet.ciiva.com/5557/rk73h-5557229.pdf?src-supplier=Mouser
footprint RESC1608X06N-RK73H0603 (Chip Resistor, 2-Leads, Body 1.60x0.80mm, IPC Medium Density)
pins: 1, 2

## RK73H2ETTD1200F
designator R?  value 120  Units: Ohm  (hidden comment: *)
Res Thick Film 1210 120 Ohm 1% 0.5W(1/2W) ±100ppm/C Pad SMD Automotive T/R; Manufacturer: KOA Speer; Manufacturer Part Number: RK73H2ETTD1200F; Resistance: 120R; Power Rating: 500mW; Temperature Coefficient: 100ppm/°C; Supplier 1: Arrow Electronics; RoHS: Yes; Category: Chip SMD Resistors; Stock 1: 15000; Pricing 1: 5000=0.02800, 10000=0.02670 (USD); Case/Package: 1210; Min Operating Temperature: -55°C; Max Operating Temperature: 155°C; Tolerance: 1%; Resistor Type: Thick Film; Length: 3.2mm; Width: 2.6mm; Height: 0.6mm; Lead Free: Lead Free; RoHS Compliant: Yes
footprint Chip2PinSM127P600-8N-KOA-RK73H-1210
pins: 1, 2

## RK73H2ETTD2702F
designator R?  value 27  Units: kOhm  (hidden comment: *)
Res 27K Ohm 1% 1/2W 1210; Manufacturer: KOA Speer; Manufacturer Part Number: RK73H2ETTD2702F; Supplier 1: Mouser; RoHS: Yes; Category: Chip SMD Resistors; Stock 1: 4390; Pricing 1: 1=0.24000, 10=0.21200, 50=0.21200, 100=0.08300, 1000=0.03500, 10000=0.02700 (USD); RoHS Compliant: Yes; Package: 1210; Type: Resistor
footprint Chip2PinSM127P600-8N-KOA-RK73H-1210
pins: 1, 2

## RK73H2ETTE1002F
designator R?  value 10  Units: kOhm  (hidden comment: *)
Res Thick Film 1210 10K Ohm 1% 0.5W(1/2W) ±100ppm/C Pad SMD Automotive T/R; Manufacturer: KOA Speer; Manufacturer Part Number: RK73H2ETTE1002F; Resistance: 10kR; Power Rating: 500mW; Voltage Rating: 200V; Temperature Coefficient: 100ppm/°C; Supplier 1: Mouser; RoHS: Yes; Category: Chip SMD Resistors; Stock 1: 3780; Pricing 1: 1=0.25000, 10=0.21600, 50=0.21600, 100=0.08500, 1000=0.03600, 10000=0.02800 (USD); Case/Package: 1210; Case Code (Imperial): 1210; Case Code (Metric): 3225; Weight: 0.000564oz; Min Operating Temperature: -55°C; Max Operating Temperature: 155°C; Tolerance: 1%; Packaging: Tape and Reel; Resistor Type: Thick Film; Termination: SMD/SMT; Series: RK73H; Construction: Rectangular; Length: 3.2mm; Width: 2.6mm; Height: 0.6mm; Depth: 2.6mm; Military Standard: Not; Lead Free: Lead Free; RoHS Compliant: Yes; ComponentLink1URL: http://www.mouser.com/ds/2/219/RK73H-5715.pdf?src-supplier=Mouser; ComponentLink1Description: http://www.mouser.com/ds/2/219/RK73H-5715.pdf?src-supplier=Mouser; Type: Resistor; Package: 1210
footprint Chip2PinSM127P600-8N-KOA-RK73H-1210
pins: 1, 2

## WK73R2JTTE272J
designator R?  value 2.7  Units: kOhm  (hidden comment: *)
Res 2.7K Ohm 5% 1W 1812; Manufacturer: KOA Speer; Manufacturer Part Number: WK73R2JTTE272J; Resistance: 2.7kR; Voltage Rating: 200V; Temperature Coefficient: 100ppm/°C; Supplier 1: Mouser; RoHS: Yes; Category: Chip SMD Resistors; Stock 1: 6968; Pricing 1: 1=0.47000, 10=0.35700, 50=0.35700, 100=0.15100, 1000=0.08300, 10000=0.07700 (USD); Min Operating Temperature: -55°C; Max Operating Temperature: 155°C; Tolerance: 5%; Power Rating: 1W; Packaging: Tape and Reel; Termination: SMD/SMT; Voltage Rating (DC): 200V; Series: WK73; RoHS Compliant: Yes; ComponentLink1URL: https://datasheet.ciiva.com/5557/wk73-5557566.pdf?src-supplier=Mouser; ComponentLink1Description: https://datasheet.ciiva.com/5557/wk73-5557566.pdf?src-supplier=Mouser
footprint Chip2PinSM127P600-8N-KOA-1218-WK73R
pins: 1, 2